# Altium schematic symbol library Capacitors.SchLib: 2 symbols
Pins are listed as number, name and electrical type; pins without a type are passive.

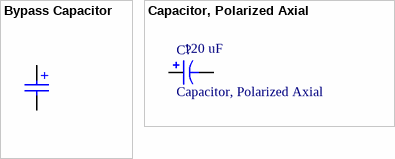
[diagram p0: symbols Bypass Capacitor to Capacitor, Polarized Axial]

## Bypass Capacitor
designator C?, comment value 0.1 uF  (hidden comment: Bypass Cap)
Bypass Capacitor:; ComponentLink1Description: Manufacturer Link
simulation model CAP (Capacitor)
signal-integrity model Cap
footprint 0402 [1005] (Chip Capacitor; Body 1.0 x 0.5 mm (LxW typ))
footprint 0504 [1310] (Chip Capacitor; Body 1.2 x 1.0 mm (LxW typ))
footprint 0603 [1608] (Chip Capacitor; Body 1.6 x 0.8 mm (LxW typ))
footprint 0805 [2012] (Chip Capacitor; Body 2.0 x 1.2 mm (LxW typ))
pins: 1, 2
text: +

## Capacitor, Polarized Axial
designator C?  value 120 uF
Polarized Capacitor (Axial); Published: 8-Jun-2000; LatestRevisionDate: 17-Jul-2002; LatestRevisionNote: Re-released for DXP Platform.; PackageReference: POLAR0.8; Publisher: Altium Limited; PackageDescription: Polarized Capacitor; 2 Leads
simulation model CAP (Capacitor)
signal-integrity model Cap Pol
footprint CAPAxial680X1220_VERT (Capacitor, Polarized Axial)
pins: 1, 2
1 alternate drawing of the same symbol